# EAGLE library part ADS1248IPW (library ADS1248)
24-Bit ADC
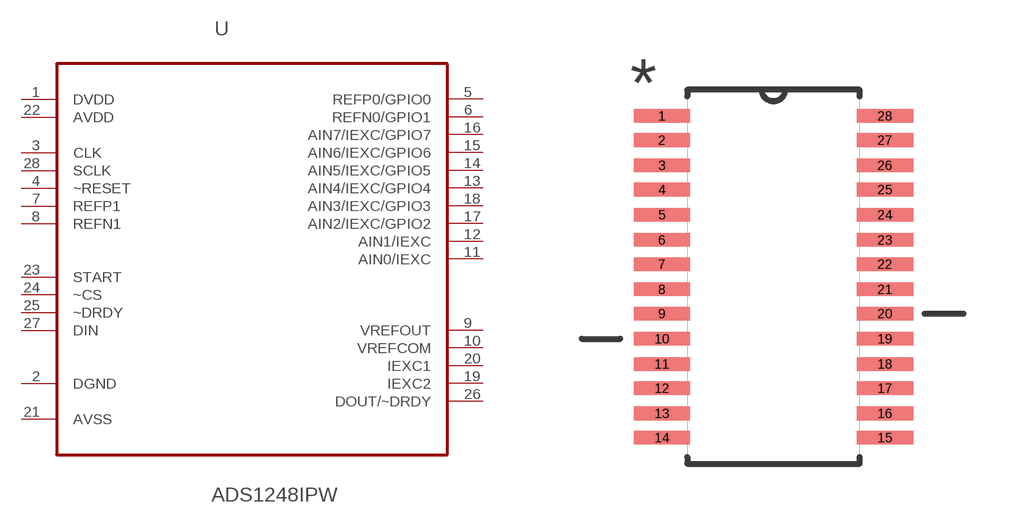
[diagram p0: symbol with the pads of SOP65P640X120-28N; footprint SOP65P640X120-28N]

Designator prefix U

## ADS1248IPW (MPN: ADS1248IPW; OC_FARNELL: 1735557; OC_NEWARK: 05R0320; PACKAGE: TSSOP-28; SUPPLIER: Texas Instruments)  [SOP65P640X120-28N]
1  DVDD  pwr
2  DGND  pas
3  CLK  in
4  ~RESET  in
5  REFP0/GPIO0
6  REFN0/GPIO1
7  REFP1  in
8  REFN1  in
9  VREFOUT  out
10  VREFCOM  out
11  AIN0/IEXC  in
12  AIN1/IEXC  in
13  AIN4/IEXC/GPIO4
14  AIN5/IEXC/GPIO5
15  AIN6/IEXC/GPIO6
16  AIN7/IEXC/GPIO7
17  AIN2/IEXC/GPIO2
18  AIN3/IEXC/GPIO3
19  IEXC2  out
20  IEXC1  out
21  AVSS  pwr
22  AVDD  pwr
23  START  in
24  ~CS  in
25  ~DRDY  in
26  DOUT/~DRDY  out
27  DIN  in
28  SCLK  in

## Footprint SOP65P640X120-28N (pad centres in mm)
smd 1.473 x 0.356: 1 -2.921,4.216; 2 -2.921,3.581; 3 -2.921,2.921; 4 -2.921,2.286; 5 -2.921,1.626; 6 -2.921,0.965; 7 -2.921,0.33; 8 -2.921,-0.33; 9 -2.921,-0.965; 10 -2.921,-1.626; 11 -2.921,-2.286; 12 -2.921,-2.921; 13 -2.921,-3.581; 14 -2.921,-4.216; 15 2.921,-4.216; 16 2.921,-3.581; 17 2.921,-2.921; 18 2.921,-2.286; 19 2.921,-1.626; 20 2.921,-0.965; 21 2.921,-0.33; 22 2.921,0.33; 23 2.921,0.965; 24 2.921,1.626; 25 2.921,2.286; 26 2.921,2.921; 27 2.921,3.581; 28 2.921,4.216